# EAGLE library part MRF24G0M (library PonLib)
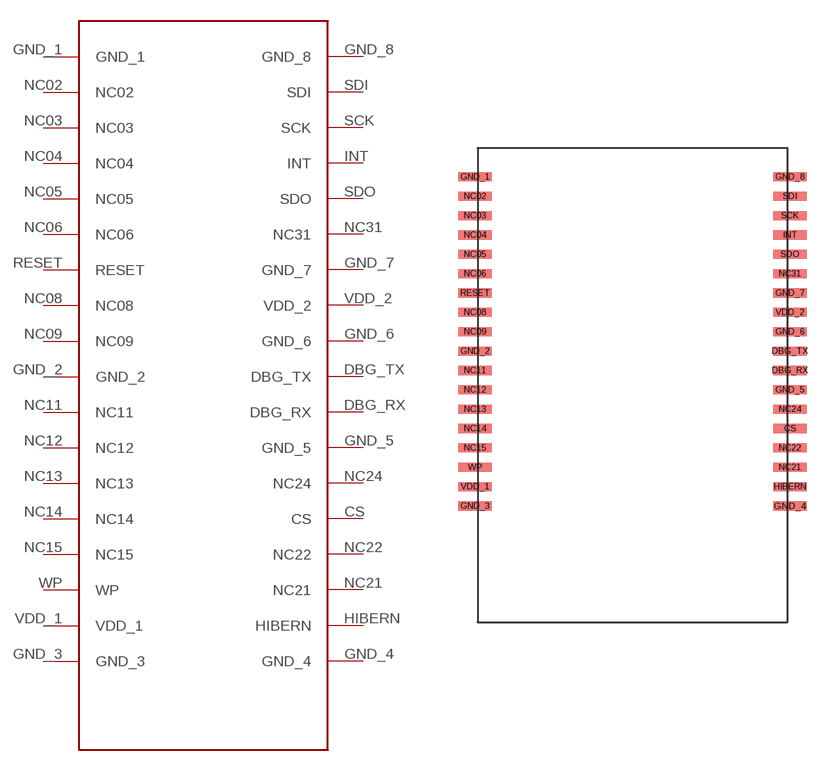
[diagram p9: symbol with the pads of MRF24WG0M; footprint MRF24WG0M]

Designator prefix -

## MRF24G0M  [MRF24WG0M]
CS  CS
DBG_RX  DBG_RX
DBG_TX  DBG_TX
GND_1  GND_1
GND_2  GND_2
GND_3  GND_3
GND_4  GND_4
GND_5  GND_5
GND_6  GND_6
GND_7  GND_7
GND_8  GND_8
HIBERN  HIBERN
INT  INT
NC02  NC02
NC03  NC03
NC04  NC04
NC05  NC05
NC06  NC06
NC08  NC08
NC09  NC09
NC11  NC11
NC12  NC12
NC13  NC13
NC14  NC14
NC15  NC15
NC21  NC21
NC22  NC22
NC24  NC24
NC31  NC31
RESET  RESET
SCK  SCK
SDI  SDI
SDO  SDO
VDD_1  VDD_1
VDD_2  VDD_2
WP  WP

## Footprint MRF24WG0M (pad centres in mm)
smd 2.2 x 0.6: CS 10.33,-5.715; DBG_RX 10.33,-1.905; DBG_TX 10.33,-0.635; GND_1 -10.33,10.795; GND_2 -10.33,-0.635; GND_3 -10.33,-10.795; GND_5 10.33,-3.175; GND_6 10.33,0.635; GND_7 10.33,3.175; GND_8 10.33,10.795; HIBERN 10.33,-9.525; INT 10.33,6.985; NC02 -10.33,9.525; NC03 -10.33,8.255; NC04 -10.33,6.985; NC05 -10.33,5.715; NC06 -10.33,4.445; NC08 -10.33,1.905; NC09 -10.33,0.635; NC11 -10.33,-1.905; NC12 -10.33,-3.175; NC13 -10.33,-4.445; NC14 -10.33,-5.715; NC15 -10.33,-6.985; NC21 10.33,-8.255; NC22 10.33,-6.985; NC24 10.33,-4.445; NC31 10.33,4.445; RESET -10.33,3.175; SCK 10.33,8.255; SDI 10.33,9.525; SDO 10.33,5.715; VDD_1 -10.33,-9.525; VDD_2 10.33,1.905; WP -10.33,-8.255
smd 2.2 x 0.635: GND_4 10.33,-10.795